# EAGLE library part MCQ4438-TP (library MCQ4438-TP)
Power MOSFETS Source: Datasheet <https://mccsemi.com/pdf/Products/MCQ4438(SOP-8).pdf>
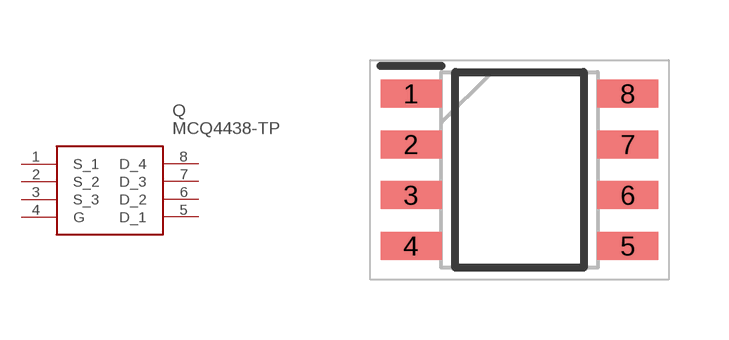
[diagram p0: symbol with the pads of SOIC127P600X175-8N; footprint SOIC127P600X175-8N]

Designator prefix Q

## MCQ4438-TP (Description: Power MOSFETS; Height: 1.75mm; Manufacturer_Name: MCC; Manufacturer_Part_Number: MCQ4438-TP)  [SOIC127P600X175-8N]
1  S_1
2  S_2
3  S_3
4  G
5  D_1
6  D_2
7  D_3
8  D_4

## Footprint SOIC127P600X175-8N (pad centres in mm)
SOP-8
smd 1.525 x 0.7: 1 -2.712,1.905; 2 -2.712,0.635; 3 -2.712,-0.635; 4 -2.712,-1.905; 5 2.712,-1.905; 6 2.712,-0.635; 7 2.712,0.635; 8 2.712,1.905